# Altium footprint library USB Bridge.PcbLib: 22 footprints (part 2 of 2)
Each footprint in its own frame and in the unit in brackets; x right, y up, seen from the top. Pads: shape width x height; smd on the part's side, far side on the other; paste and mask are expansions set on the pad; w line width, h text height; cw(c..) or ccw(c..) is an arc to the next point about the centre after c.
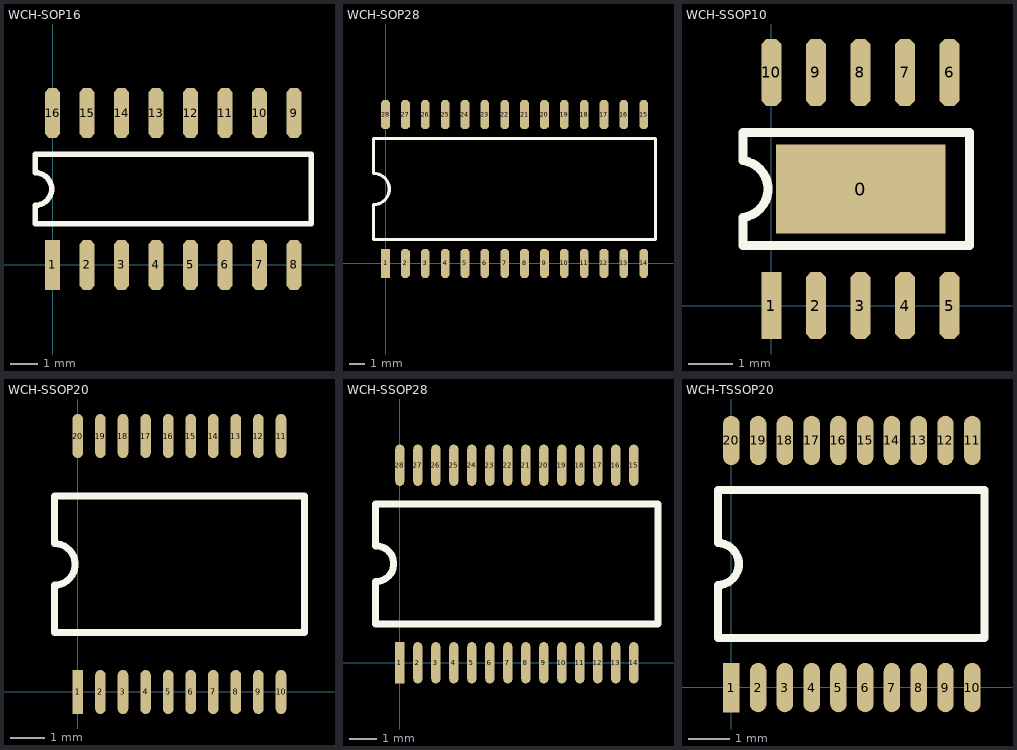
[diagram p1: the footprints below, top view; thin cyan lines are the x and y axes]

## WCH-SOP16 [mil]
pads (16):
  rect 22x72 smd: 1(0,0)
  oct 22x72 smd: 2(50,0) 3(100,0) 4(150,0) 5(200,0) 6(250,0) 7(300,0) 8(350,0) 9(350,220) 10(300,220) 11(250,220) 12(200,220) 13(150,220) 14(100,220) 15(50,220) 16(0,220)
Top Overlay:
  lines w8: -25,60 -25,86.38 ccw(c-25,110) -25,133.62 -25,160 375,160 375,60 -25,60
3D body "sop16.step": height 62.01, standoff 0.12, extent -21.67,-12.5 371.29,232.97

## WCH-SOP28 [mil]
pads (28):
  rect 22x72 smd: 1(0,0)
  oct 22x72 smd: 2(50,0) 3(100,0) 4(150,0) 5(200,0) 6(250,0) 7(300,0) 8(350,0) 9(400,0) 10(450,0) 11(500,0) 12(550,0) 13(600,0) 14(650,0) 15(650,375) 16(600,375) 17(550,375) 18(500,375) 19(450,375) 20(400,375) 21(350,375) 22(300,375) 23(250,375) 24(200,375) 25(150,375) 26(100,375) 27(50,375) 28(0,375)
Top Overlay:
  lines w8: -30,147.63 -30,60 680,60 680,315 -30,315 -30,226.87 cw(c-30,187.5) -30,148.13
3D body "SOP28.stp": height 110.24, standoff 0, extent -24.21,-15.75 674.61,385.83

## WCH-SSOP10 [mm]
pads (11):
  rect 3.8x2 smd: 0(2.007,2.616)
  rect 0.45x1.5 smd: 1(0,0)
  oct 0.45x1.5 smd: 2(1,0) 3(2,0) 4(3,0) 5(4,0) 6(4,5.232) 7(3,5.232) 8(2,5.232) 9(1,5.232) 10(0,5.232)
Top Overlay:
  lines w0.203: -0.635,1.346 -0.635,1.981 ccw(c-0.714,2.616) -0.635,3.251 -0.635,3.886 4.445,3.886 4.445,1.346 -0.635,1.346
3D body "ESSOP-10.STEP": height 1.55, standoff 0, extent -0.45,-0.384 4.45,5.616

## WCH-SSOP20 [mil]
pads (20):
  rect 12x50 smd: 1(0,0)
  oval 12x50 smd: 2(25.6,0) 3(51.2,0) 4(76.8,0) 5(102.4,0) 6(128,0) 7(153.5,0) 8(179.1,0) 9(204.7,0) 10(230.3,0) 11(230.3,290) 12(204.7,290) 13(179.1,290) 14(153.5,290) 15(128,290) 16(102.4,290) 17(76.8,290) 18(51.2,290) 19(25.6,290) 20(0,290)
Top Overlay:
  lines w7.87: -26.57,67.24 -26.57,120.98 ccw(c-26.57,144.61) -26.57,168.23 -26.57,221.97 256.89,221.97 256.89,67.24 -26.57,67.24
3D body "SSOP_20.step": height 72.44, standoff 0, extent -29.53,-9.84 257.87,301.18

## WCH-SSOP28 [mm]
pads (28):
  rect 0.33x1.5 smd: 1(0,0)
  oval 0.33x1.5 smd: 2(0.65,0) 3(1.3,0) 4(1.95,0) 5(2.6,0) 6(3.25,0) 7(3.9,0) 8(4.55,0) 9(5.2,0) 10(5.85,0) 11(6.5,0) 12(7.15,0) 13(7.8,0) 14(8.45,0) 15(8.45,7.136) 16(7.8,7.136) 17(7.15,7.136) 18(6.5,7.136) 19(5.85,7.136) 20(5.2,7.136) 21(4.55,7.136) 22(3.9,7.136) 23(3.25,7.136) 24(2.6,7.136) 25(1.95,7.136) 26(1.3,7.136) 27(0.65,7.136) 28(0,7.136)
Top Overlay:
  lines w0.254: -0.875,4.223 -0.875,5.727 9.325,5.727 9.325,1.409 -0.875,1.409 -0.875,2.933 ccw(c-0.865,3.578) -0.872,4.223
3D body "SSOP-28.STEP": height 1.9, standoff 0, extent -0.88,-0.35 9.32,7.45

## WCH-TSSOP20 [mm]
height 1.3
pads (20):
  rect 0.4x1.2 smd mask+0.05: 1(0,-0.003)
  oval 0.4x1.2 smd mask+0.05: 2(0.65,-0.003) 3(1.3,-0.003) 4(1.951,-0.003) 5(2.601,-0.003) 6(3.251,-0.003) 7(3.899,-0.003) 8(4.549,-0.003) 9(5.199,-0.003) 10(5.85,-0.003) 11(5.85,5.997) 12(5.199,5.997) 13(4.549,5.997) 14(3.899,5.997) 15(3.251,5.997) 16(2.601,5.997) 17(1.951,5.997) 18(1.3,5.997) 19(0.65,5.997) 20(0,5.997)
Top Overlay:
  lines w0.2: -0.325,1.2 6.145,1.2 6.145,4.794 -0.325,4.794 -0.325,3.505 cw(c-0.325,2.997) -0.325,2.489 -0.325,1.2
3D body "TSSOP-20.step": height 1.2, standoff 0, extent -0.37,-0.275 6.23,6.275